# Altium schematic symbol library SCH - POWER - LINEAR VREG - TI TPS7A4501-SPHKU.SchLib: 1 symbol
Pins are listed as number, name and electrical type; pins without a type are passive.

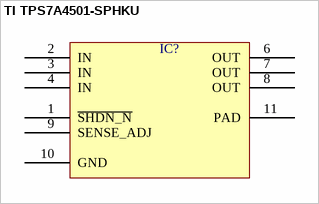
[diagram p0: symbol TI TPS7A4501-SPHKU]

## TI TPS7A4501-SPHKU
designator IC?  (value not drawn)
pins: 1 ~{SHDN_N}, 2 IN, 3 IN, 4 IN, 6 OUT, 7 OUT, 8 OUT, 9 SENSE_ADJ, 10 GND, 11 PAD